# Altium schematic symbol library Relays.SchLib: 1 symbol
Pins are listed as number, name and electrical type; pins without a type are passive.

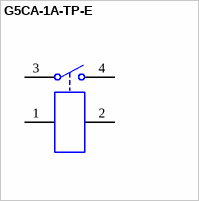
[diagram p0: symbol G5CA-1A-TP-E]

## G5CA-1A-TP-E
designator K?, comment Relay - SPST
Omron G5CA-1A-TP-E PCB Mount 12 V Relay with 15A contacts; ComponentLink1Description: Manufacturer Link; ComponentLink1URL: http://www.Omron.com/; ComponentLink2Description: Datasheet
footprint Omron G5CA-1A-TP
footprint Omron G5CA-1A-TP (Omrom G5CA-1A-TP PCB Relay)
pins: 1, 2, 3, 4